# Altium footprint library 2.90-TI标准封装.PcbLib: 35 footprints (part 2 of 3)
Each footprint in its own frame and in the unit in brackets; x right, y up, seen from the top. Pads: shape width x height; smd on the part's side, far side on the other; paste and mask are expansions set on the pad; w line width, h text height; cw(c..) or ccw(c..) is an arc to the next point about the centre after c.
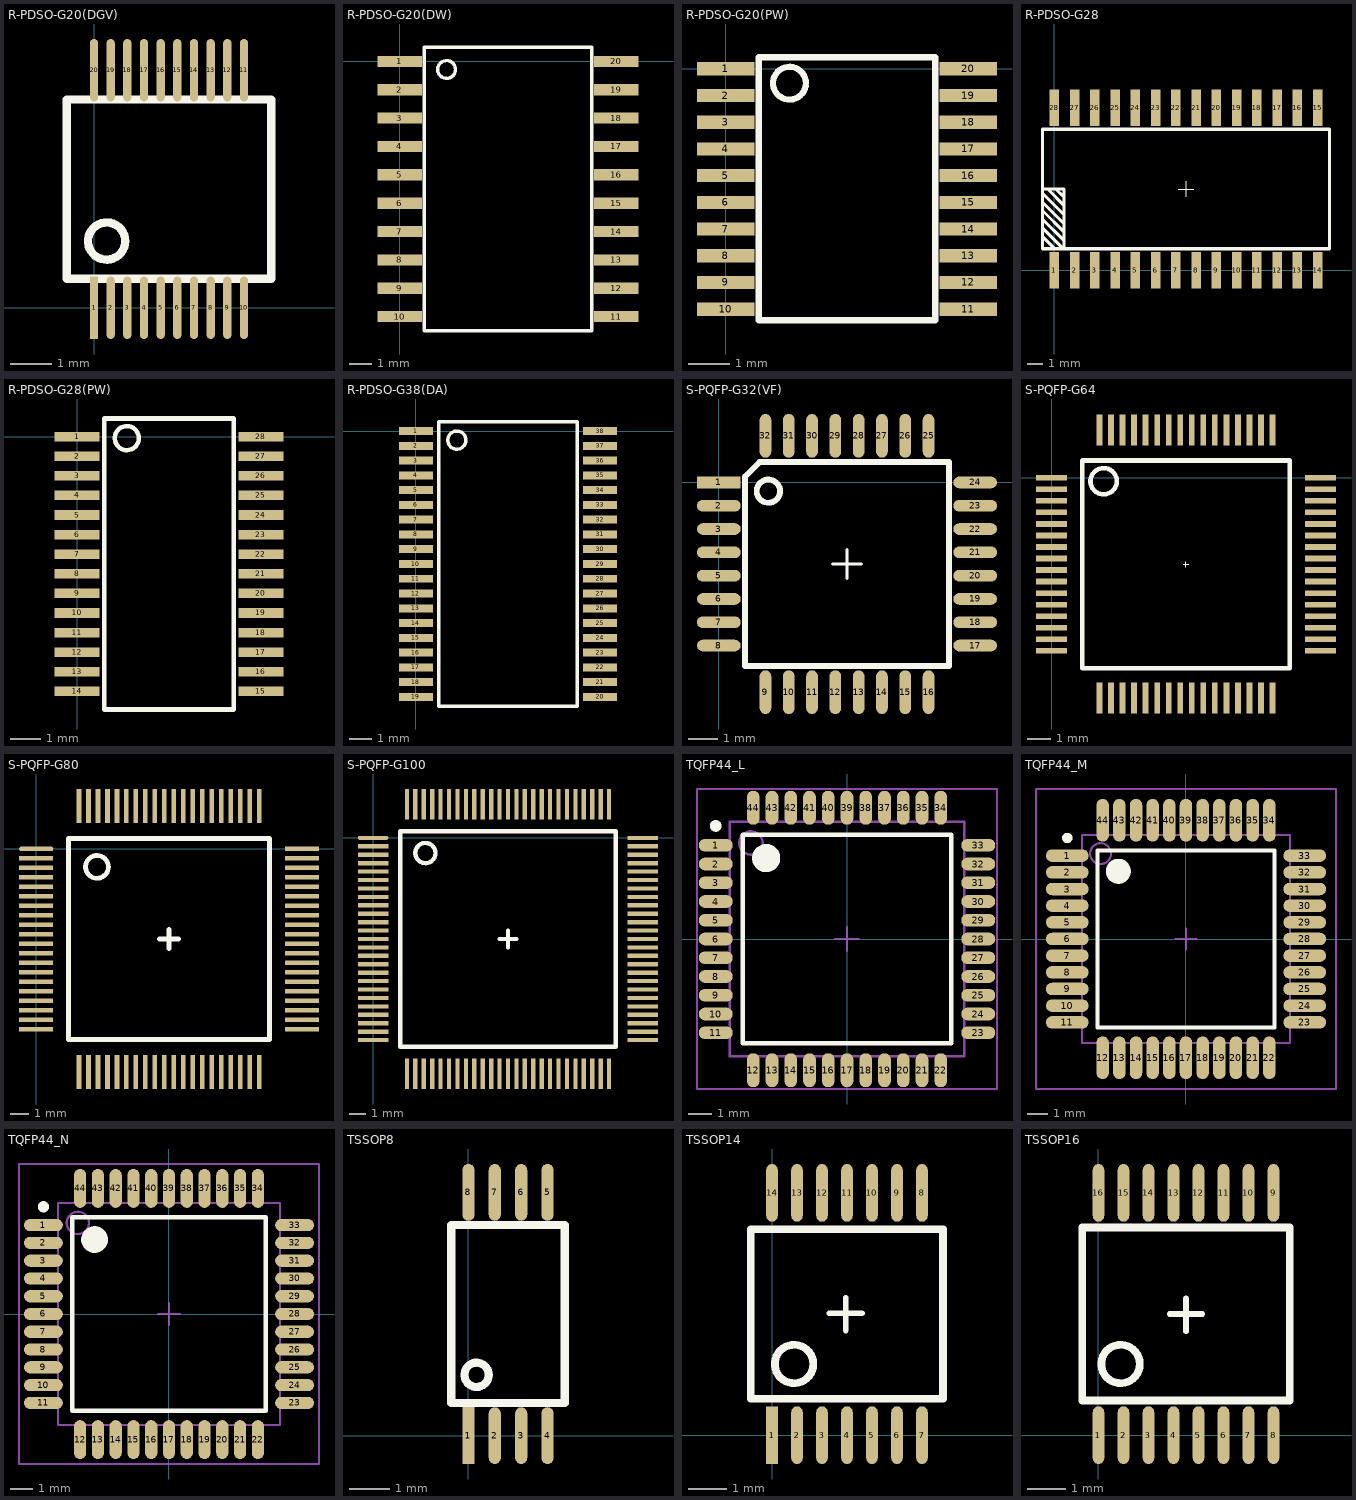
[diagram p1: the footprints below, top view; thin cyan lines are the x and y axes]

## R-PDSO-G20(DGV) [mm] "[ PCBѧϰȺ514746572 ]"
pads (20):
  rect 0.2x1.5 smd: 1(0,0)
  oval 0.2x1.5 smd: 2(0.4,0) 3(0.8,0) 4(1.2,0) 5(1.6,0) 6(2,0) 7(2.4,0) 8(2.8,0) 9(3.2,0) 10(3.6,0) 11(3.6,5.7) 12(3.2,5.7) 13(2.8,5.7) 14(2.4,5.7) 15(2,5.7) 16(1.6,5.7) 17(1.2,5.7) 18(0.8,5.7) 19(0.4,5.7) 20(0,5.7)
Top Overlay:
  circle w0.2: c0.303,1.6 r0.447
  lines w0.2: -0.65,0.7 4.25,0.7 4.25,5 -0.65,5 -0.65,0.7

## R-PDSO-G20(DW) [mm] "[ PCBѧϰȺ514746572 ]"
pads (20):
  rect 2x0.5 smd: 1(0,0) 2(0,-1.27) 3(0,-2.54) 4(0,-3.81) 5(0,-5.08) 6(0,-6.35) 7(0,-7.62) 8(0,-8.89) 9(0,-10.16) 10(0,-11.43) 11(9.7,-11.43) 12(9.7,-10.16) 13(9.7,-8.89) 14(9.7,-7.62) 15(9.7,-6.35) 16(9.7,-5.08) 17(9.7,-3.81) 18(9.7,-2.54) 19(9.7,-1.27) 20(9.7,0)
Top Overlay:
  circle w0.15: c2.1,-0.365 r0.4
  lines w0.152: 1.1,-12.065 1.1,0.635 8.6,0.635 8.6,-12.065 1.1,-12.065

## R-PDSO-G20(PW) [mm] "[ PCBѧϰȺ514746572 ]"
pads (20):
  rect 1.4x0.32 smd: 1(0,0) 2(0,-0.65) 3(0,-1.3) 4(0,-1.95) 5(0,-2.6) 6(0,-3.25) 7(0,-3.9) 8(0,-4.55) 9(0,-5.2) 10(0,-5.85) 11(5.9,-5.85) 12(5.9,-5.2) 13(5.9,-4.55) 14(5.9,-3.9) 15(5.9,-3.25) 16(5.9,-2.6) 17(5.9,-1.95) 18(5.9,-1.3) 19(5.9,-0.65) 20(5.9,0)
Top Overlay:
  circle w0.15: c1.55,-0.35 r0.4
  lines w0.152: 0.8,-6.12 0.8,0.28 5.1,0.28 5.1,-6.12 0.807,-6.12

## R-PDSO-G28 [mm] "[ PCBѧϰȺ514746572 ]"
pads (28):
  rect 0.6x2.3 smd: 1(0,0) 2(1.27,0) 3(2.54,0) 4(3.81,0) 5(5.08,0) 6(6.35,0) 7(7.62,0) 8(8.89,0) 9(10.16,0) 10(11.43,0) 11(12.7,0) 12(13.97,0) 13(15.24,0) 14(16.51,0) 15(16.51,10.2) 16(15.24,10.2) 17(13.97,10.2) 18(12.7,10.2) 19(11.43,10.2) 20(10.16,10.2) 21(8.89,10.2) 22(7.62,10.2) 23(6.35,10.2) 24(5.08,10.2) 25(3.81,10.2) 26(2.54,10.2) 27(1.27,10.2) 28(0,10.2)
Top Overlay:
  lines w0: 7.755,5.1 8.755,5.1 ; 8.255,4.6 8.255,5.6
  lines w0.2: -0.745,3.21 0.615,1.85 ; -0.745,3.75 0.615,2.39 ; -0.745,4.28 0.545,2.99 ; -0.745,4.83 0.615,3.47 ; -0.735,2.11 -0.045,1.42 ; -0.725,2.65 0.505,1.42 ; -0.685,5.1 0.615,5.1 0.615,1.4 ; -0.425,5.1 0.615,4.06 ; 0.095,5.1 0.615,4.58 ; -0.745,1.35 17.255,1.35 17.255,8.85 -0.745,8.85 -0.745,1.35

## R-PDSO-G28(PW) [mm] "[ PCBѧϰȺ514746572 ]"
pads (28):
  rect 1.5x0.32 smd: 1(0,0) 2(0,-0.65) 3(0,-1.3) 4(0,-1.95) 5(0,-2.6) 6(0,-3.25) 7(0,-3.9) 8(0,-4.55) 9(0,-5.2) 10(0,-5.85) 11(0,-6.5) 12(0,-7.15) 13(0,-7.8) 14(0,-8.45) 15(6.1,-8.45) 16(6.1,-7.8) 17(6.1,-7.15) 18(6.1,-6.5) 19(6.1,-5.85) 20(6.1,-5.2) 21(6.1,-4.55) 22(6.1,-3.9) 23(6.1,-3.25) 24(6.1,-2.6) 25(6.1,-1.95) 26(6.1,-1.3) 27(6.1,-0.65) 28(6.1,0)
Top Overlay:
  circle w0.15: c1.65,-0.05 r0.4
  lines w0.152: 0.9,-9.05 0.9,0.6 5.2,0.6 5.2,-9.05 0.907,-9.05

## R-PDSO-G38(DA) [mm] "[ PCBѧϰȺ514746572 ]"
pads (38):
  rect 1.5x0.35 smd: 1(0,0) 2(0,-0.65) 3(0,-1.3) 4(0,-1.95) 5(0,-2.6) 6(0,-3.25) 7(0,-3.9) 8(0,-4.55) 9(0,-5.2) 10(0,-5.85) 11(0,-6.5) 12(0,-7.15) 13(0,-7.8) 14(0,-8.45) 15(0,-9.1) 16(0,-9.75) 17(0,-10.4) 18(0,-11.05) 19(0,-11.7) 20(8.1,-11.7) 21(8.1,-11.05) 22(8.1,-10.4) 23(8.1,-9.75) 24(8.1,-9.1) 25(8.1,-8.45) 26(8.1,-7.8) 27(8.1,-7.15) 28(8.1,-6.5) 29(8.1,-5.85) 30(8.1,-5.2) 31(8.1,-4.55) 32(8.1,-3.9) 33(8.1,-3.25) 34(8.1,-2.6) 35(8.1,-1.95) 36(8.1,-1.3) 37(8.1,-0.65) 38(8.1,0)
Top Overlay:
  circle w0.15: c1.8,-0.4 r0.4
  lines w0.152: 1,-12.1 7.1,-12.1 7.1,0.4 1,0.4 1,-12.1

## S-PQFP-G32(VF) [mm] "[ PCBѧϰȺ514746572 ]"
pads (32):
  rect 1.5x0.4 smd: 1(0,0)
  oval 1.5x0.4 smd: 2(0,-0.8) 3(0,-1.6) 4(0,-2.4) 5(0,-3.2) 6(0,-4) 7(0,-4.8) 8(0,-5.6) 17(8.8,-5.6) 18(8.8,-4.8) 19(8.8,-4) 20(8.8,-3.2) 21(8.8,-2.4) 22(8.8,-1.6) 23(8.8,-0.8) 24(8.8,0)
  oval 0.4x1.5 smd: 9(1.6,-7.2) 10(2.4,-7.2) 11(3.2,-7.2) 12(4,-7.2) 13(4.8,-7.2) 14(5.6,-7.2) 15(6.4,-7.2) 16(7.2,-7.2) 25(7.2,1.6) 26(6.4,1.6) 27(5.6,1.6) 28(4.8,1.6) 29(4,1.6) 30(3.2,1.6) 31(2.4,1.6) 32(1.6,1.6)
Top Overlay:
  circle w0.2: c1.7,-0.3 r0.4
  lines w0.1: 3.9,-2.8 4.9,-2.8 ; 4.4,-3.3 4.4,-2.3
  lines w0.2: 0.9,-6.3 0.9,0.2 1.4,0.7 7.9,0.7 7.9,-6.3 0.9,-6.3

## S-PQFP-G64 [mm] "[ PCBѧϰȺ514746572 ]"
pads (64):
  rect 1.35x0.25 smd: 1(0,0) 2(0,-0.5) 3(0,-1) 4(0,-1.5) 5(0,-2) 6(0,-2.5) 7(0,-3) 8(0,-3.5) 9(0,-4) 10(0,-4.5) 11(0,-5) 12(0,-5.5) 13(0,-6) 14(0,-6.5) 15(0,-7) 16(0,-7.5) 33(11.65,-7.5) 34(11.65,-7) 35(11.65,-6.5) 36(11.65,-6) 37(11.65,-5.5) 38(11.65,-5) 39(11.65,-4.5) 40(11.65,-4) 41(11.65,-3.5) 42(11.65,-3) 43(11.65,-2.5) 44(11.65,-2) 45(11.65,-1.5) 46(11.65,-1) 47(11.65,-0.5) 48(11.65,0)
  rect 0.25x1.35 smd: 17(2.075,-9.55) 18(2.575,-9.55) 19(3.075,-9.55) 20(3.575,-9.55) 21(4.075,-9.55) 22(4.575,-9.55) 23(5.075,-9.55) 24(5.575,-9.55) 25(6.075,-9.55) 26(6.575,-9.55) 27(7.075,-9.55) 28(7.575,-9.55) 29(8.075,-9.55) 30(8.575,-9.55) 31(9.075,-9.55) 32(9.575,-9.55) 49(9.575,2.075) 50(9.075,2.075) 51(8.575,2.075) 52(8.075,2.075) 53(7.575,2.075) 54(7.075,2.075) 55(6.575,2.075) 56(6.075,2.075) 57(5.575,2.075) 58(5.075,2.075) 59(4.575,2.075) 60(4.075,2.075) 61(3.575,2.075) 62(3.075,2.075) 63(2.575,2.075) 64(2.075,2.075)
Top Overlay:
  circle w0.2: c2.255,-0.15 r0.57
  lines w0.001: 5.705,-3.75 5.945,-3.75 ; 5.825,-3.87 5.825,-3.63
  lines w0.2: 1.325,-8.25 1.325,0.75 10.325,0.75 10.325,-8.25 1.325,-8.25

## S-PQFP-G80 [mm] "[ PCBѧϰȺ514746572 ]"
pads (80):
  oval 1.8x0.25 smd: 1(0,0)
  rect 1.8x0.25 smd: 2(-0.008,-0.5) 3(-0.008,-1) 4(-0.008,-1.5) 5(-0.008,-2) 6(-0.008,-2.5) 7(-0.008,-3) 8(-0.008,-3.5) 9(-0.008,-4) 10(-0.008,-4.5) 11(-0.008,-5) 12(-0.008,-5.5) 13(-0.008,-6) 14(-0.008,-6.5) 15(-0.008,-7) 16(-0.008,-7.5) 17(-0.008,-8) 18(-0.008,-8.5) 19(-0.008,-9) 20(-0.008,-9.5) 41(14,-9.5) 42(14,-9) 43(14,-8.5) 44(14,-8) 45(14,-7.5) 46(14,-7) 47(14,-6.5) 48(14,-6) 49(14,-5.5) 50(14,-5) 51(14,-4.5) 52(14,-4) 53(14,-3.5) 54(14,-3) 55(14,-2.5) 56(14,-2) 57(14,-1.5) 58(14,-1) 59(14,-0.5) 60(14,0)
  rect 0.25x1.8 smd: 21(2.25,-11.75) 22(2.75,-11.75) 23(3.25,-11.75) 24(3.75,-11.75) 25(4.25,-11.75) 26(4.75,-11.75) 27(5.25,-11.75) 28(5.75,-11.75) 29(6.25,-11.75) 30(6.75,-11.75) 31(7.25,-11.75) 32(7.75,-11.75) 33(8.25,-11.75) 34(8.75,-11.75) 35(9.25,-11.75) 36(9.75,-11.75) 37(10.25,-11.75) 38(10.75,-11.75) 39(11.25,-11.75) 40(11.75,-11.75) 61(11.75,2.25) 62(11.25,2.25) 63(10.75,2.25) 64(10.25,2.25) 65(9.25,2.25) 65(9.75,2.25) 67(8.75,2.25) 68(8.25,2.25) 69(7.75,2.25) 70(7.25,2.25) 71(6.75,2.25) 72(6.25,2.25) 73(5.75,2.25) 74(5.25,2.25) 75(4.75,2.25) 76(4.25,2.25) 77(3.75,2.25) 78(3.25,2.25) 79(2.75,2.25) 80(2.25,2.25)
Top Overlay:
  circle w0.254: c3.2,-0.95 r0.6
  lines w0.254: 6.5,-4.75 7.5,-4.75 ; 7,-5.25 7,-4.25 ; 1.7,-10.05 1.7,0.55 12.3,0.55 12.3,-10.05 1.7,-10.05

## S-PQFP-G100 [mm] "[ PCBѧϰȺ514746572 ]"
pads (100):
  oval 1.8x0.25 smd: 1(0,0)
  rect 1.8x0.25 smd: 2(0,-0.5) 3(0,-1) 4(0,-1.5) 5(0,-2) 6(0,-2.5) 7(0,-3) 8(0,-3.5) 9(0,-4) 10(0,-4.5) 11(0,-5) 12(0,-5.5) 13(0,-6) 14(0,-6.5) 15(0,-7) 16(0,-7.5) 17(0,-8) 18(0,-8.5) 19(0,-9) 20(0,-9.5) 21(0,-10) 22(0,-10.5) 23(0,-11) 24(0,-11.5) 25(0,-12) 51(16,-12) 52(16,-11.5) 53(16,-11) 54(16,-10.5) 55(16,-10) 56(16,-9.5) 57(16,-9) 58(16,-8.5) 59(16,-8) 60(16,-7.5) 61(16,-7) 62(16,-6.5) 63(16,-6) 64(16,-5.5) 65(16,-5) 66(16,-4.5) 67(16,-4) 68(16,-3.5) 69(16,-3) 70(16,-2.5) 71(16,-2) 72(16,-1.5) 73(16,-1) 74(16,-0.5) 75(16,0)
  rect 0.25x1.8 smd: 26(2,-14) 27(2.5,-14) 28(3,-14) 29(3.5,-14) 30(4,-14) 31(4.5,-14) 32(5,-14) 33(5.5,-14) 34(6,-14) 35(6.5,-14) 36(7,-14) 37(7.5,-14) 38(8,-14) 39(8.5,-14) 40(9,-14) 41(9.5,-14) 42(10,-14) 43(10.5,-14) 44(11,-14) 45(11.5,-14) 46(12,-14) 47(12.5,-14) 48(13,-14) 49(13.5,-14) 50(14,-14) 76(14,2) 77(13.5,2) 78(13,2) 79(12.5,2) 80(12,2) 81(11.5,2) 82(11,2) 83(10.5,2) 84(10,2) 85(9.5,2) 86(9,2) 87(8.5,2) 88(8,2) 89(7.5,2) 90(7,2) 91(6.5,2) 92(6,2) 93(5.5,2) 94(5,2) 95(4.5,2) 96(4,2) 97(3.5,2) 98(3,2) 99(2.5,2) 100(2,2)
Top Overlay:
  circle w0.254: c3.1,-0.9 r0.6
  lines w0.254: 7.5,-6 8.5,-6 ; 8,-6.5 8,-5.5 ; 1.6,-12.4 14.4,-12.4 14.4,0.4 1.6,0.4 1.6,-12.4

## TQFP44_L [mm] "Thin QFP, 44-Leads, Body 10x10mm, Pitch 0.8mm, IPC High Density      [ PCBѧϰȺ514746572 ]"
height 1.6
pads (44):
  oval 1.45x0.55 smd: 1(-5.6,4) 2(-5.6,3.2) 3(-5.6,2.4) 4(-5.6,1.6) 5(-5.6,0.8) 6(-5.6,0) 7(-5.6,-0.8) 8(-5.6,-1.6) 9(-5.6,-2.4) 10(-5.6,-3.2) 11(-5.6,-4) 23(5.6,-4) 24(5.6,-3.2) 25(5.6,-2.4) 26(5.6,-1.6) 27(5.6,-0.8) 28(5.6,0) 29(5.6,0.8) 30(5.6,1.6) 31(5.6,2.4) 32(5.6,3.2) 33(5.6,4)
  oval 0.55x1.45 smd: 12(-4,-5.6) 13(-3.2,-5.6) 14(-2.4,-5.6) 15(-1.6,-5.6) 16(-0.8,-5.6) 17(0,-5.6) 18(0.8,-5.6) 19(1.6,-5.6) 20(2.4,-5.6) 21(3.2,-5.6) 22(4,-5.6) 34(4,5.6) 35(3.2,5.6) 36(2.4,5.6) 37(1.6,5.6) 38(0.8,5.6) 39(0,5.6) 40(-0.8,5.6) 41(-1.6,5.6) 42(-2.4,5.6) 43(-3.2,5.6) 44(-4,5.6)
Top Overlay:
  circle w0.25: c-5.6,4.825 r0.125
  circle w0.6: c-3.45,3.45 r0.3
  lines w0.2: -4.45,-4.45 -4.45,4.45 4.45,4.45 4.45,-4.45 -4.45,-4.45
Mechanical 13:
  circle w0.1: c-4.1,4.1 r0.5
  lines w0.1: -5,-5 -5,5 5,5 5,-5 -5,-5
Mechanical 15:
  lines w0.1: -0.5,0 0.5,0 ; 0,-0.5 0,0.5 ; -6.4,-6.4 -6.4,6.4 6.4,6.4 6.4,-6.4 -6.4,-6.4
3D body: height 1.6, standoff 0, extent -5,-5 5,5

## TQFP44_M [mm] "Thin QFP, 44-Leads, Body 10x10mm, Pitch 0.8mm, IPC Low Density      [ PCBѧϰȺ514746572 ]"
height 1.6
pads (44):
  oval 2.05x0.6 smd: 1(-5.7,4) 2(-5.7,3.2) 3(-5.7,2.4) 4(-5.7,1.6) 5(-5.7,0.8) 6(-5.7,0) 7(-5.7,-0.8) 8(-5.7,-1.6) 9(-5.7,-2.4) 10(-5.7,-3.2) 11(-5.7,-4) 23(5.7,-4) 24(5.7,-3.2) 25(5.7,-2.4) 26(5.7,-1.6) 27(5.7,-0.8) 28(5.7,0) 29(5.7,0.8) 30(5.7,1.6) 31(5.7,2.4) 32(5.7,3.2) 33(5.7,4)
  oval 0.6x2.05 smd: 12(-4,-5.7) 13(-3.2,-5.7) 14(-2.4,-5.7) 15(-1.6,-5.7) 16(-0.8,-5.7) 17(0,-5.7) 18(0.8,-5.7) 19(1.6,-5.7) 20(2.4,-5.7) 21(3.2,-5.7) 22(4,-5.7) 34(4,5.7) 35(3.2,5.7) 36(2.4,5.7) 37(1.6,5.7) 38(0.8,5.7) 39(0,5.7) 40(-0.8,5.7) 41(-1.6,5.7) 42(-2.4,5.7) 43(-3.2,5.7) 44(-4,5.7)
Top Overlay:
  circle w0.25: c-5.7,4.85 r0.125
  circle w0.6: c-3.25,3.25 r0.3
  lines w0.2: -4.25,-4.25 -4.25,4.25 4.25,4.25 4.25,-4.25 -4.25,-4.25
Mechanical 13:
  circle w0.1: c-4.1,4.1 r0.5
  lines w0.1: -5,-5 -5,5 5,5 5,-5 -5,-5
Mechanical 15:
  lines w0.1: -0.5,0 0.5,0 ; 0,-0.5 0,0.5 ; -7.2,-7.2 -7.2,7.2 7.2,7.2 7.2,-7.2 -7.2,-7.2
3D body: height 1.6, standoff 0, extent -5,-5 5,5

## TQFP44_N [mm] "Thin QFP, 44-Leads, Body 10x10mm, Pitch 0.8mm, IPC Medium Density      [ PCBѧϰȺ514746572 ]"
height 1.6
pads (44):
  oval 1.75x0.55 smd: 1(-5.65,4) 2(-5.65,3.2) 3(-5.65,2.4) 4(-5.65,1.6) 5(-5.65,0.8) 6(-5.65,0) 7(-5.65,-0.8) 8(-5.65,-1.6) 9(-5.65,-2.4) 10(-5.65,-3.2) 11(-5.65,-4) 23(5.65,-4) 24(5.65,-3.2) 25(5.65,-2.4) 26(5.65,-1.6) 27(5.65,-0.8) 28(5.65,0) 29(5.65,0.8) 30(5.65,1.6) 31(5.65,2.4) 32(5.65,3.2) 33(5.65,4)
  oval 0.55x1.75 smd: 12(-4,-5.65) 13(-3.2,-5.65) 14(-2.4,-5.65) 15(-1.6,-5.65) 16(-0.8,-5.65) 17(0,-5.65) 18(0.8,-5.65) 19(1.6,-5.65) 20(2.4,-5.65) 21(3.2,-5.65) 22(4,-5.65) 34(4,5.65) 35(3.2,5.65) 36(2.4,5.65) 37(1.6,5.65) 38(0.8,5.65) 39(0,5.65) 40(-0.8,5.65) 41(-1.6,5.65) 42(-2.4,5.65) 43(-3.2,5.65) 44(-4,5.65)
Top Overlay:
  circle w0.25: c-5.65,4.825 r0.125
  circle w0.6: c-3.35,3.35 r0.3
  lines w0.2: -4.35,-4.35 -4.35,4.35 4.35,4.35 4.35,-4.35 -4.35,-4.35
Mechanical 13:
  circle w0.1: c-4.1,4.1 r0.5
  lines w0.1: -5,-5 -5,5 5,5 5,-5 -5,-5
Mechanical 15:
  lines w0.1: -0.5,0 0.5,0 ; 0,-0.5 0,0.5 ; -6.75,-6.75 -6.75,6.75 6.75,6.75 6.75,-6.75 -6.75,-6.75
3D body: height 1.6, standoff 0, extent -5,-5 5,5

## TSSOP8 [mm] "[ PCBѧϰȺ514746572 ]"
pads (8):
  rect 0.3x1.4 smd: 1(0,0)
  oval 0.3x1.4 smd: 2(0.65,0) 3(1.3,0) 4(1.95,0) 5(1.95,6) 6(1.3,6) 7(0.65,6) 8(0,6)
Top Overlay:
  circle w0.2: c0.2,1.5 r0.3
  lines w0.2: -0.425,0.8 -0.425,5.2 2.375,5.2 2.375,0.8 -0.425,0.8

## TSSOP14 [mm] "[ PCBѧϰȺ514746572 ]"
pads (14):
  rect 0.3x1.5 smd: 1(0,0)
  oval 0.3x1.5 smd: 2(0.65,0) 3(1.3,0) 4(1.95,0) 5(2.6,0) 6(3.25,0) 7(3.9,0) 8(3.9,6.3) 9(3.25,6.3) 10(2.6,6.3) 11(1.95,6.3) 12(1.3,6.3) 13(0.65,6.3) 14(0,6.3)
Top Overlay:
  circle w0.2: c0.575,1.85 r0.5
  lines w0.15: 1.49,3.17 2.34,3.17 ; 1.915,2.72 1.915,3.57
  lines w0.2: -0.555,0.95 -0.555,5.35 4.445,5.35 4.445,0.95 -0.555,0.95

## TSSOP16 [mm] "[ PCBѧϰȺ514746572 ]"
pads (16):
  oval 0.3x1.5 smd: 1(0,0) 2(0.65,0) 3(1.3,0) 4(1.95,0) 5(2.6,0) 6(3.25,0) 7(3.9,0) 8(4.55,0) 9(4.55,6.3) 10(3.9,6.3) 11(3.25,6.3) 12(2.6,6.3) 13(1.95,6.3) 14(1.3,6.3) 15(0.65,6.3) 16(0,6.3)
Top Overlay:
  circle w0.2: c0.575,1.85 r0.5
  lines w0.15: 1.85,3.15 2.7,3.15 ; 2.275,2.7 2.275,3.55
  lines w0.2: -0.425,0.9 4.975,0.9 4.975,5.4 -0.425,5.4 -0.425,0.9